# Altium footprint library LCD2x16.PCBLIB: 1 footprints
Each footprint in its own frame and in the unit in brackets; x right, y up, seen from the top. Pads: shape width x height; smd on the part's side, far side on the other; paste and mask are expansions set on the pad; w line width, h text height; cw(c..) or ccw(c..) is an arc to the next point about the centre after c.
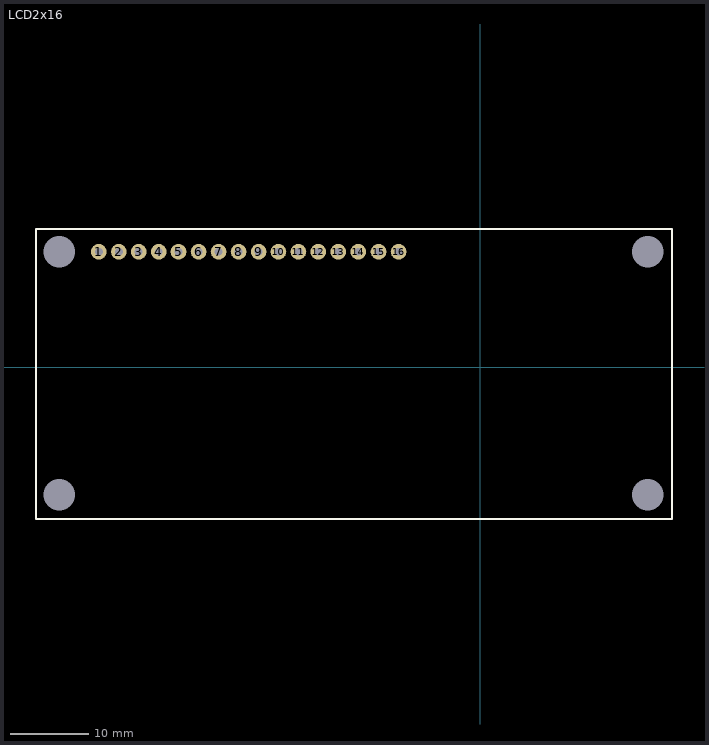
[diagram p0: the footprint, top view; thin cyan lines are the x and y axes]

## LCD2x16 [mm]
pads (20):
  round 0 hole 4: 0(-53.575,-16.2) 0(-53.575,14.725) 0(21.35,-16.2) 0(21.35,14.725)
  round 2 hole 1: 1(-48.55,14.725) 2(-46,14.725) 3(-43.475,14.725) 4(-40.925,14.725) 5(-38.4,14.725) 6(-35.85,14.725) 7(-33.3,14.725) 8(-30.75,14.725) 9(-28.2,14.725) 10(-25.675,14.725) 11(-23.125,14.725) 12(-20.6,14.725) 13(-18.05,14.725) 14(-15.5,14.725) 15(-12.925,14.725) 16(-10.375,14.725)
Top Overlay:
  lines w0.254: -56.575,-19.325 -56.575,17.65 24.475,17.65 24.475,-19.325 -56.575,-19.325